# Altium footprint library Connector_PCBEdge.PcbLib: 101 footprints (part 1 of 7)
Each footprint in its own frame and in the unit in brackets; x right, y up, seen from the top. Pads: shape width x height; smd on the part's side, far side on the other; paste and mask are expansions set on the pad; w line width, h text height; cw(c..) or ccw(c..) is an arc to the next point about the centre after c.
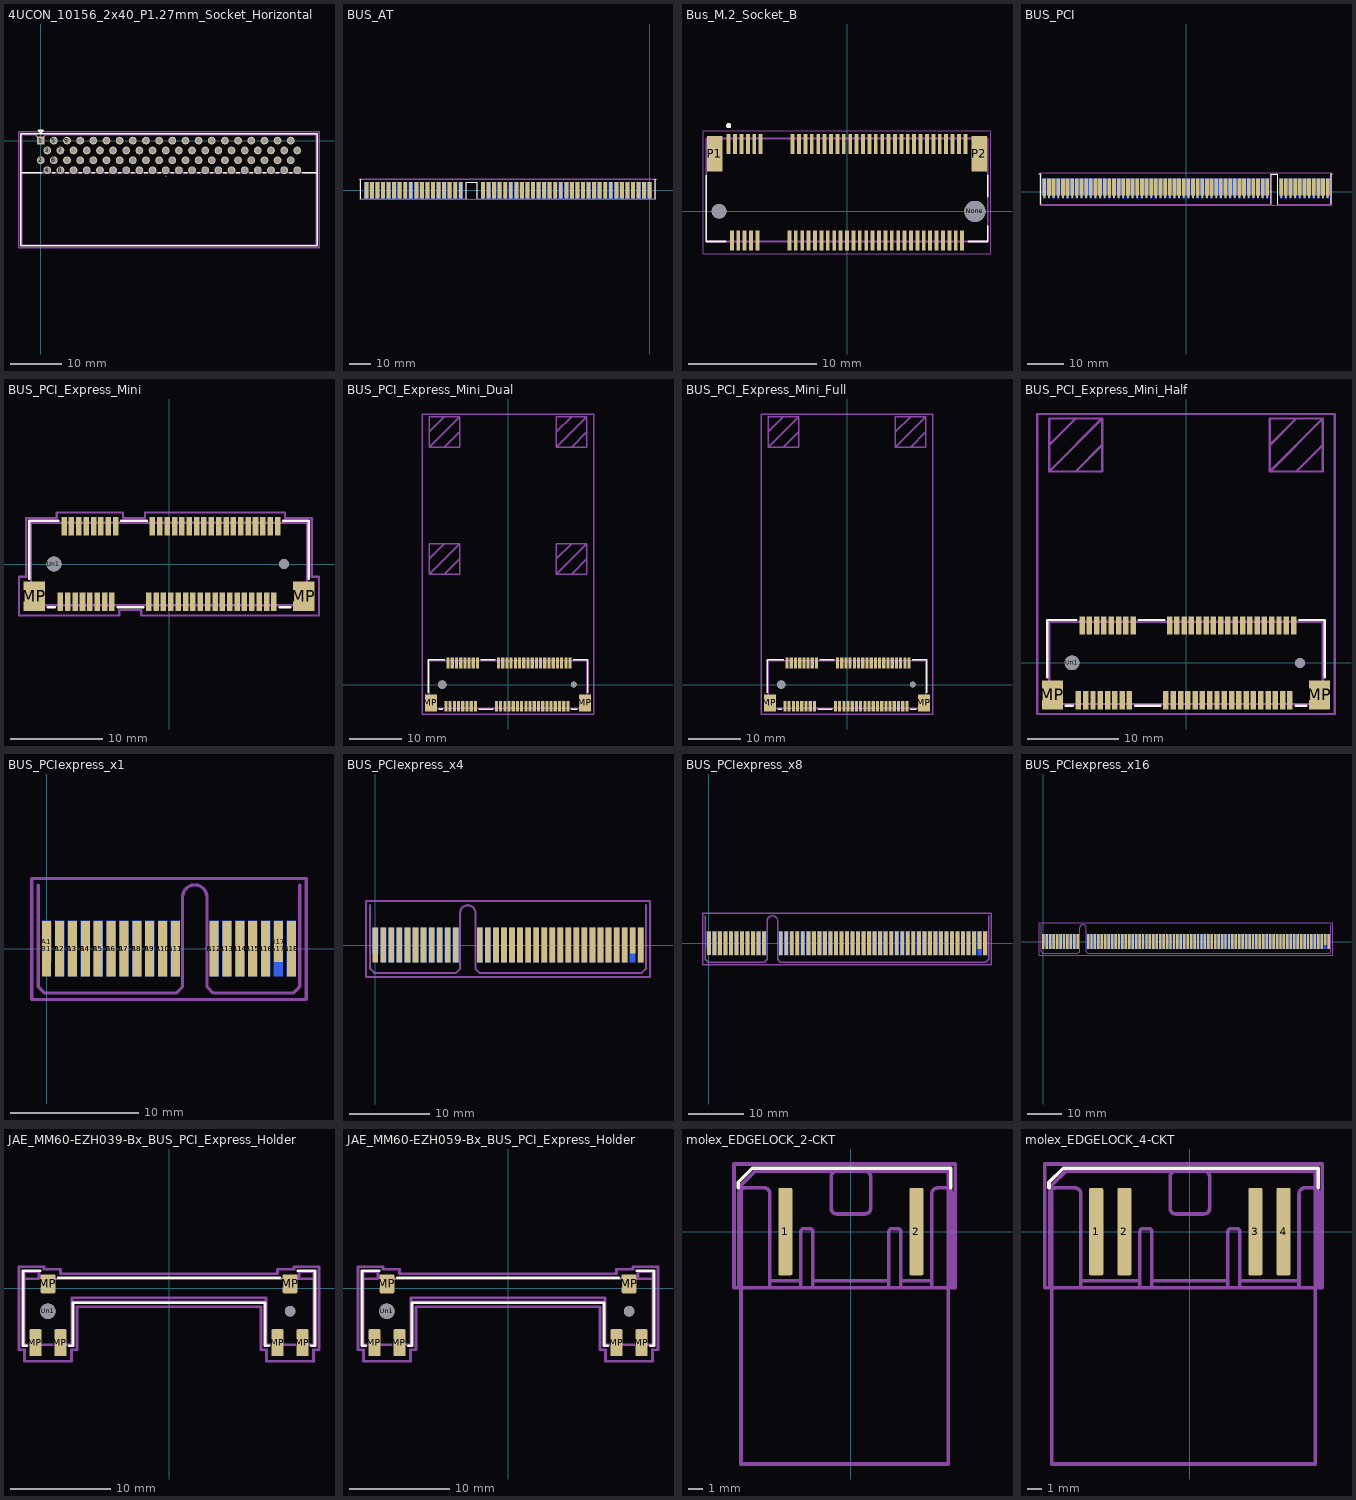
[diagram p0: the footprints below, top view; thin cyan lines are the x and y axes]

## 4UCON_10156_2x40_P1.27mm_Socket_Horizontal [mm]
pads (80):
  rect 1.5x1.5 hole 1: 1(0,0)
  round 1.5 hole 1: 2(0,-3.8) 3(1.27,-1.9) 4(1.27,-5.7) 5(2.54,0) 6(2.54,-3.8) 7(3.81,-1.9) 8(3.81,-5.7) 9(5.08,0) 10(5.08,-3.8) 11(6.35,-1.9) 12(6.35,-5.7) 13(7.62,0) 14(7.62,-3.8) 15(8.89,-1.9) 16(8.89,-5.7) 17(10.16,0) 18(10.16,-3.8) 19(11.43,-1.9) 20(11.43,-5.7) 21(12.7,0) 22(12.7,-3.8) 23(13.97,-1.9) 24(13.97,-5.7) 25(15.24,0) 26(15.24,-3.8) 27(16.51,-1.9) 28(16.51,-5.7) 29(17.78,0) 30(17.78,-3.8) 31(19.05,-1.9) 32(19.05,-5.7) 33(20.32,0) 34(20.32,-3.8) 35(21.59,-1.9) 36(21.59,-5.7) 37(22.86,0) 38(22.86,-3.8) 39(24.13,-1.9) 40(24.13,-5.7) 41(25.4,0) 42(25.4,-3.8) 43(26.67,-1.9) 44(26.67,-5.7) 45(27.94,0) 46(27.94,-3.8) 47(29.21,-1.9) 48(29.21,-5.7) 49(30.48,0) 50(30.48,-3.8) 51(31.75,-1.9) 52(31.75,-5.7) 53(33.02,0) 54(33.02,-3.8) 55(34.29,-1.9) 56(34.29,-5.7) 57(35.56,0) 58(35.56,-3.8) 59(36.83,-1.9) 60(36.83,-5.7) 61(38.1,0) 62(38.1,-3.8) 63(39.37,-1.9) 64(39.37,-5.7) 65(40.64,0) 66(40.64,-3.8) 67(41.91,-1.9) 68(41.91,-5.7) 69(43.18,0) 70(43.18,-3.8) 71(44.45,-1.9) 72(44.45,-5.7) 73(45.72,0) 74(45.72,-3.8) 75(46.99,-1.9) 76(46.99,-5.7) 77(48.26,0) 78(48.26,-3.8) 79(49.53,-1.9) 80(49.53,-5.7)
F.SilkS:
  lines w0.254: -3.8,-6.2 0.311,-6.2 ; 2.23,-6.2 2.851,-6.2 ; 4.77,-6.2 5.391,-6.2 ; 7.31,-6.2 7.931,-6.2 ; 9.85,-6.2 10.471,-6.2 ; 12.39,-6.2 13.011,-6.2 ; 14.93,-6.2 15.551,-6.2 ; 17.47,-6.2 18.091,-6.2 ; 20.01,-6.2 20.631,-6.2 ; 22.55,-6.2 23.171,-6.2 ; 25.09,-6.2 25.711,-6.2 ; 27.63,-6.2 28.251,-6.2 ; 30.17,-6.2 30.791,-6.2 ; 32.71,-6.2 33.331,-6.2 ; 35.25,-6.2 35.871,-6.2 ; 37.79,-6.2 38.411,-6.2 ; 40.33,-6.2 40.951,-6.2 ; 42.87,-6.2 43.491,-6.2 ; 45.41,-6.2 46.031,-6.2 ; 47.95,-6.2 48.571,-6.2 ; 50.49,-6.2 53.33,-6.2 ; -3.8,-20.32 53.33,-20.32 53.33,1.29 -3.8,1.29 -3.8,-20.32 ; -0.5,2.03 0,1.53 0.5,2.03 -0.5,2.03
Top Component Center:
  lines w0.127: 24.003,-6.858 24.257,-6.858 ; 24.13,-6.985 24.13,-6.731
Top Assembly:
  lines w0.254: -3.68,-6.2 53.21,-6.2 ; -3.68,-20.2 53.21,-20.2 53.21,1.17 1,1.17 0,0.17 -1,1.17 -3.68,1.17 -3.68,-20.2
  text "'.Designator'" at 20.718,-10.355 h1
Top Courtyard:
  lines w0.254: -4.18,-20.7 53.71,-20.7 53.71,1.67 -4.18,1.67 -4.18,-20.7
Top Designator:
  text ".Designator" at 17.147,-9.843 h1.52

## BUS_AT [mm]
pads (98):
  rect 1.78x7.62 smd far side: 1(0,0) 2(-2.54,0) 3(-5.08,0) 4(-7.62,0) 5(-10.16,0) 6(-12.7,0) 7(-15.24,0) 8(-17.78,0) 9(-20.32,0) 10(-22.86,0) 11(-25.4,0) 12(-27.94,0) 13(-30.48,0) 14(-33.02,0) 15(-35.56,0) 16(-38.1,0) 17(-40.64,0) 18(-43.18,0) 19(-45.72,0) 20(-48.26,0) 21(-50.8,0) 22(-53.34,0) 23(-55.88,0) 24(-58.42,0) 25(-60.96,0) 26(-63.5,0) 27(-66.04,0) 28(-68.58,0) 29(-71.12,0) 30(-73.66,0) 31(-76.2,0) 63(-86.36,0) 64(-88.9,0) 65(-91.44,0) 66(-93.98,0) 67(-96.52,0) 68(-99.06,0) 69(-101.6,0) 70(-104.14,0) 71(-106.68,0) 72(-109.22,0) 73(-111.76,0) 74(-114.3,0) 75(-116.84,0) 76(-119.38,0) 77(-121.92,0) 78(-124.46,0) 79(-127,0) 80(-129.54,0)
  rect 1.78x7.62 smd: 32(0,0) 33(-2.54,0) 34(-5.08,0) 35(-7.62,0) 36(-10.16,0) 37(-12.7,0) 38(-15.24,0) 39(-17.78,0) 40(-20.32,0) 41(-22.86,0) 42(-25.4,0) 43(-27.94,0) 44(-30.48,0) 45(-33.02,0) 46(-35.56,0) 47(-38.1,0) 48(-40.64,0) 49(-43.18,0) 50(-45.72,0) 51(-48.26,0) 52(-50.8,0) 53(-53.34,0) 54(-55.88,0) 55(-58.42,0) 56(-60.96,0) 57(-63.5,0) 58(-66.04,0) 59(-68.58,0) 60(-71.12,0) 61(-73.66,0) 62(-76.2,0) 81(-86.36,0) 82(-88.9,0) 83(-91.44,0) 84(-93.98,0) 85(-96.52,0) 86(-99.06,0) 87(-101.6,0) 88(-104.14,0) 89(-106.68,0) 90(-109.22,0) 91(-111.76,0) 92(-114.3,0) 93(-116.84,0) 94(-119.38,0) 95(-121.92,0) 96(-124.46,0) 97(-127,0) 98(-129.54,0)
F.SilkS:
  lines w0.254: -132.55,5.1 -132.15,5.1 -132.15,-3.85 ; -83.75,-3.85 -83.75,3.75 -78.8,3.75 -78.8,-3.85 ; 2.6,-3.85 2.6,5.1 3,5.1
Top Assembly:
  lines w0.254: -132.08,-3.81 -132.08,5.08 2.54,5.08 2.54,-3.81 -78.74,-3.81 -78.74,3.81 -83.82,3.81 -83.82,-3.81 -132.08,-3.81
  text "'.Designator'" at -68.817,-0.205 h1
Top Courtyard:
  lines w0.254: -132.33,-4.06 -132.33,5.33 2.79,5.33 2.79,-4.06 -132.33,-4.06
Top Designator:
  text ".Designator" at -72.393,0.127 h1.52

## Bus_M.2_Socket_B [mm] "Bus_M.2_Socket_B"
pads (71):
  rect 0.3x1.55 smd: 1(-9.25,5.275) 2(-9,-2.275) 3(-8.75,5.275) 4(-8.5,-2.275) 5(-8.25,5.275) 6(-8,-2.275) 7(-7.75,5.275) 8(-7.5,-2.275) 9(-7.25,5.275) 10(-7,-2.275) 11(-6.75,5.275) 20(-4.5,-2.275) 21(-4.25,5.275) 22(-4,-2.275) 23(-3.75,5.275) 24(-3.5,-2.275) 25(-3.25,5.275) 26(-3,-2.275) 27(-2.75,5.275) 28(-2.5,-2.275) 29(-2.25,5.275) 30(-2,-2.275) 31(-1.75,5.275) 32(-1.5,-2.275) 33(-1.25,5.275) 34(-1,-2.275) 35(-0.75,5.275) 36(-0.5,-2.275) 37(-0.25,5.275) 38(0,-2.275) 39(0.25,5.275) 40(0.5,-2.275) 41(0.75,5.275) 42(1,-2.275) 43(1.25,5.275) 44(1.5,-2.275) 45(1.75,5.275) 46(2,-2.275) 47(2.25,5.275) 48(2.5,-2.275) 49(2.75,5.275) 50(3,-2.275) 51(3.25,5.275) 52(3.5,-2.275) 53(3.75,5.275) 54(4,-2.275) 55(4.25,5.275) 56(4.5,-2.275) 57(4.75,5.275) 58(5,-2.275) 59(5.25,5.275) 60(5.5,-2.275) 61(5.75,5.275) 62(6,-2.275) 63(6.25,5.275) 64(6.5,-2.275) 65(6.75,5.275) 66(7,-2.275) 67(7.25,5.275) 68(7.5,-2.275) 69(7.75,5.275) 70(8,-2.275) 71(8.25,5.275) 72(8.5,-2.275) 73(8.75,5.275) 74(9,-2.275) 75(9.25,5.275)
  round 1.15 hole 1.15: None(-10,0)
  round 1.65 hole 1.65: None(10,0)
  rect 1.2x2.75 smd: P1(-10.35,4.5) P2(10.35,4.5)
F.SilkS:
  circle w0.2: c-9.25,6.7 r0.1
  lines w0.127: -11,2.805 -11,-2.35 -9.47,-2.35 ; 9.47,-2.35 11,-2.35 11,-1.145 ; 11,1.145 11,2.805
Top Assembly:
  circle w0.2: c-9.25,6.7 r0.1
  lines w0.127: -11,-2.35 11,-2.35 11,5.7 -11,5.7 -11,-2.35
Top Courtyard:
  lines w0.05: -11.25,-3.3 11.25,-3.3 11.25,6.3 -11.25,6.3 -11.25,-3.3
3D body "Bus_M.2_Socket_B.step": height 2.7, standoff -0.6, extent -11,-2.822 11,5.728

## BUS_PCI [mm]
pads (240):
  rect 0.51x0.76 smd far side: A1(-38.73,-1.33) A2(-37.46,-1.33) A3(-36.2,-1.33) A4(-34.92,-1.33) A5(-33.65,-1.33) A6(-32.38,-1.33) A7(-31.11,-1.33) A8(-29.84,-1.33) A9(-28.57,-1.33) A10(-27.3,-1.33) A11(-26.03,-1.33) A12(-24.77,-1.33) A13(-23.49,-1.33) A14(-22.22,-1.33) A15(-20.95,-1.33) A16(-19.68,-1.33) A17(-18.41,-1.33) A18(-17.14,-1.33) A19(-15.88,-1.33) A20(-14.6,-1.33) A21(-13.34,-1.33) A22(-12.06,-1.33) A23(-10.79,-1.33) A24(-9.52,-1.33) A25(-8.25,-1.33) A26(-6.98,-1.33) A27(-5.71,-1.33) A28(-4.44,-1.33) A29(-3.17,-1.33) A30(-1.9,-1.33) A31(-0.63,-1.33) A32(0.64,-1.33) A33(1.91,-1.33) A34(3.18,-1.33) A35(4.45,-1.33) A36(5.72,-1.33) A37(6.99,-1.33) A38(8.26,-1.33) A39(9.53,-1.33) A40(10.8,-1.33) A41(12.07,-1.33) A42(13.34,-1.33) A43(14.61,-1.33) A44(15.88,-1.33) A45(17.15,-1.33) A46(18.42,-1.33) A47(19.69,-1.33) A48(20.96,-1.33) A49(22.23,-1.33) A52(26.04,-1.33) A53(27.31,-1.33) A54(28.58,-1.33) A55(29.85,-1.33) A56(31.12,-1.33) A57(32.39,-1.33) A58(33.66,-1.33) A59(34.93,-1.33) A60(36.2,-1.33) A61(37.47,-1.33) A62(38.73,-1.33)
  rect 1.02x4.57 smd far side: A1(-38.73,1.33) A2(-37.46,1.33) A3(-36.2,1.33) A4(-34.92,1.33) A5(-33.65,1.33) A6(-32.38,1.33) A7(-31.11,1.33) A8(-29.84,1.33) A9(-28.57,1.33) A10(-27.3,1.33) A11(-26.03,1.33) A12(-24.77,1.33) A13(-23.49,1.33) A14(-22.22,1.33) A15(-20.95,1.33) A16(-19.68,1.33) A17(-18.41,1.33) A18(-17.14,1.33) A19(-15.88,1.33) A20(-14.6,1.33) A21(-13.34,1.33) A22(-12.06,1.33) A23(-10.79,1.33) A24(-9.52,1.33) A25(-8.25,1.33) A26(-6.98,1.33) A27(-5.71,1.33) A28(-4.44,1.33) A29(-3.17,1.33) A30(-1.9,1.33) A31(-0.63,1.33) A32(0.64,1.33) A33(1.91,1.33) A34(3.18,1.33) A35(4.45,1.33) A36(5.72,1.33) A37(6.99,1.33) A38(8.26,1.33) A39(9.53,1.33) A40(10.8,1.33) A41(12.07,1.33) A42(13.34,1.33) A43(14.61,1.33) A44(15.88,1.33) A45(17.15,1.33) A46(18.42,1.33) A47(19.69,1.33) A48(20.96,1.33) A49(22.23,1.33) A52(26.04,1.33) A53(27.31,1.33) A54(28.58,1.33) A55(29.85,1.33) A56(31.12,1.33) A57(32.39,1.33) A58(33.66,1.33) A59(34.93,1.33) A60(36.2,1.33) A61(37.47,1.33) A62(38.73,1.33)
  rect 0.51x0.76 smd: B1(-38.73,-1.33) B2(-37.46,-1.33) B3(-36.2,-1.33) B4(-34.92,-1.33) B5(-33.65,-1.33) B6(-32.38,-1.33) B7(-31.11,-1.33) B8(-29.84,-1.33) B9(-28.57,-1.33) B10(-27.3,-1.33) B11(-26.03,-1.33) B12(-24.77,-1.33) B13(-23.49,-1.33) B14(-22.22,-1.33) B15(-20.95,-1.33) B16(-19.68,-1.33) B17(-18.41,-1.33) B18(-17.14,-1.33) B19(-15.88,-1.33) B20(-14.6,-1.33) B21(-13.34,-1.33) B22(-12.06,-1.33) B23(-10.79,-1.33) B24(-9.52,-1.33) B25(-8.25,-1.33) B26(-6.98,-1.33) B27(-5.71,-1.33) B28(-4.44,-1.33) B29(-3.17,-1.33) B30(-1.9,-1.33) B31(-0.63,-1.33) B32(0.64,-1.33) B33(1.91,-1.33) B34(3.18,-1.33) B35(4.45,-1.33) B36(5.72,-1.33) B37(6.99,-1.33) B38(8.26,-1.33) B39(9.53,-1.33) B40(10.8,-1.33) B41(12.07,-1.33) B42(13.34,-1.33) B43(14.61,-1.33) B44(15.88,-1.33) B45(17.15,-1.33) B46(18.42,-1.33) B47(19.69,-1.33) B48(20.96,-1.33) B49(22.23,-1.33) B52(26.04,-1.33) B53(27.31,-1.33) B54(28.58,-1.33) B55(29.85,-1.33) B56(31.12,-1.33) B57(32.39,-1.33) B58(33.66,-1.33) B59(34.93,-1.33) B60(36.2,-1.33) B61(37.47,-1.33) B62(38.73,-1.33)
  rect 1.02x4.57 smd: B1(-38.73,1.33) B2(-37.46,1.33) B3(-36.2,1.33) B4(-34.92,1.33) B5(-33.65,1.33) B6(-32.38,1.33) B7(-31.11,1.33) B8(-29.84,1.33) B9(-28.57,1.33) B10(-27.3,1.33) B11(-26.03,1.33) B12(-24.77,1.33) B13(-23.49,1.33) B14(-22.22,1.33) B15(-20.95,1.33) B16(-19.68,1.33) B17(-18.41,1.33) B18(-17.14,1.33) B19(-15.88,1.33) B20(-14.6,1.33) B21(-13.34,1.33) B22(-12.06,1.33) B23(-10.79,1.33) B24(-9.52,1.33) B25(-8.25,1.33) B26(-6.98,1.33) B27(-5.71,1.33) B28(-4.44,1.33) B29(-3.17,1.33) B30(-1.9,1.33) B31(-0.63,1.33) B32(0.64,1.33) B33(1.91,1.33) B34(3.18,1.33) B35(4.45,1.33) B36(5.72,1.33) B37(6.99,1.33) B38(8.26,1.33) B39(9.53,1.33) B40(10.8,1.33) B41(12.07,1.33) B42(13.34,1.33) B43(14.61,1.33) B44(15.88,1.33) B45(17.15,1.33) B46(18.42,1.33) B47(19.69,1.33) B48(20.96,1.33) B49(22.23,1.33) B52(26.04,1.33) B53(27.31,1.33) B54(28.58,1.33) B55(29.85,1.33) B56(31.12,1.33) B57(32.39,1.33) B58(33.66,1.33) B59(34.93,1.33) B60(36.2,1.33) B61(37.47,1.33) B62(38.73,1.33)
F.SilkS:
  lines w0.254: -40.27,4.88 -39.67,4.88 -39.72,-3.37 ; 23.28,-3.37 23.28,4.83 24.93,4.83 24.98,-3.37 ; 39.68,-3.37 39.68,4.88 39.98,4.88
Top Assembly:
  lines w0.254: -39.62,4.89 -39.62,-3.37 23.24,-3.37 23.24,4.89 25.02,4.89 25.02,-3.37 39.62,-3.37 39.62,4.89
  text "'.Designator'" at -4.047,-0.08 h1
Top Courtyard:
  lines w0.254: -39.87,-3.62 39.87,-3.62 39.87,5.14 -39.87,5.14 -39.87,-3.62
Top Designator:
  text ".Designator" at -7.763,0.252 h1.52

## BUS_PCI_Express_Mini [mm]
pads (56):
  rect 0.6x2 smd: 1(-11.8,-4.1) 2(-11.4,4.1) 3(-11,-4.1) 4(-10.6,4.1) 5(-10.2,-4.1) 6(-9.8,4.1) 7(-9.4,-4.1) 8(-9,4.1) 9(-8.6,-4.1) 10(-8.2,4.1) 11(-7.8,-4.1) 12(-7.4,4.1) 13(-7,-4.1) 14(-6.6,4.1) 15(-6.2,-4.1) 16(-5.8,4.1) 17(-2.2,-4.1) 18(-1.8,4.1) 19(-1.4,-4.1) 20(-1,4.1) 21(-0.6,-4.1) 22(-0.2,4.1) 23(0.2,-4.1) 24(0.6,4.1) 25(1,-4.1) 26(1.4,4.1) 27(1.8,-4.1) 28(2.2,4.1) 29(2.6,-4.1) 30(3,4.1) 31(3.4,-4.1) 32(3.8,4.1) 33(4.2,-4.1) 34(4.6,4.1) 35(5,-4.1) 36(5.4,4.1) 37(5.8,-4.1) 38(6.2,4.1) 39(6.6,-4.1) 40(7,4.1) 41(7.4,-4.1) 42(7.8,4.1) 43(8.2,-4.1) 44(8.6,4.1) 45(9,-4.1) 46(9.4,4.1) 47(9.8,-4.1) 48(10.2,4.1) 49(10.6,-4.1) 50(11,4.1) 51(11.4,-4.1) 52(11.8,4.1)
  rect 2.3x3.2 smd: MP(-14.65,-3.5) MP(14.65,-3.5)
  round 1.6 hole 1.6: Un1(-12.5,0)
  round 1.1 hole 1.1: Un2(12.5,0)
F.SilkS:
  lines w0.254: -15.2,-1.6 -15.2,4.7 -12,4.7 ; -13.2,-4.7 -12.4,-4.7 ; -5.6,-4.7 -2.8,-4.7 ; -5.2,4.7 -2.4,4.7 ; 12,-4.7 13.2,-4.7 ; 12.4,4.7 15.2,4.7 15.2,-1.6
Top Assembly:
  lines w0.254: -15,-4.5 -15,4.5 15,4.5 15,-4.5 -15,-4.5
  text "'.Designator'" at -4.047,-0.84 h1
Top Courtyard:
  lines w0.254: -16.3,-5.6 -16.3,-1.4 -15.5,-1.4 -15.5,5 -12.2,5 -12.2,5.6 -5,5.6 -5,5 -2.6,5 -2.6,5.6 12.6,5.6 12.6,5 15.5,5 15.5,-1.4 16.3,-1.4 16.3,-5.6 -3,-5.6 -3,-5 -5.4,-5 -5.4,-5.6 -16.3,-5.6
Top Designator:
  text ".Designator" at -7.618,-0.508 h1.52

## BUS_PCI_Express_Mini_Dual [mm]
pads (56):
  rect 0.6x2 smd: 1(-11.8,-4.1) 2(-11.4,4.1) 3(-11,-4.1) 4(-10.6,4.1) 5(-10.2,-4.1) 6(-9.8,4.1) 7(-9.4,-4.1) 8(-9,4.1) 9(-8.6,-4.1) 10(-8.2,4.1) 11(-7.8,-4.1) 12(-7.4,4.1) 13(-7,-4.1) 14(-6.6,4.1) 15(-6.2,-4.1) 16(-5.8,4.1) 17(-2.2,-4.1) 18(-1.8,4.1) 19(-1.4,-4.1) 20(-1,4.1) 21(-0.6,-4.1) 22(-0.2,4.1) 23(0.2,-4.1) 24(0.6,4.1) 25(1,-4.1) 26(1.4,4.1) 27(1.8,-4.1) 28(2.2,4.1) 29(2.6,-4.1) 30(3,4.1) 31(3.4,-4.1) 32(3.8,4.1) 33(4.2,-4.1) 34(4.6,4.1) 35(5,-4.1) 36(5.4,4.1) 37(5.8,-4.1) 38(6.2,4.1) 39(6.6,-4.1) 40(7,4.1) 41(7.4,-4.1) 42(7.8,4.1) 43(8.2,-4.1) 44(8.6,4.1) 45(9,-4.1) 46(9.4,4.1) 47(9.8,-4.1) 48(10.2,4.1) 49(10.6,-4.1) 50(11,4.1) 51(11.4,-4.1) 52(11.8,4.1)
  rect 2.3x3.2 smd: MP(-14.65,-3.5) MP(14.65,-3.5)
  round 1.6 hole 1.6: Un1(-12.5,0)
  round 1.1 hole 1.1: Un2(12.5,0)
F.SilkS:
  lines w0.254: -15.2,-1.6 -15.2,4.7 -12,4.7 ; -13.2,-4.7 -12.4,-4.7 ; -5.6,-4.7 -2.8,-4.7 ; -5.2,4.7 -2.4,4.7 ; 12,-4.7 13.2,-4.7 ; 12.4,4.7 15.2,4.7 15.2,-1.6
Top Assembly:
  lines w0.254: -15,-4.5 15,-4.5 15,4.5 -15,4.5 -15,-4.5
  text "'.Designator'" at -4.047,-0.84 h1
Top Courtyard:
  lines w0.254: -16.3,-5.6 16.3,-5.6 16.3,51.45 -16.3,51.45 -16.3,-5.6
Top Designator:
  text ".Designator" at -7.618,22.417 h1.52
Dwgs.User:
  lines w0.254: -15,23.9 -12.1,26.8 ; -15,48.05 -12.1,50.95 ; -12.1,21 -9.2,23.9 ; -12.1,45.15 -9.2,48.05 ; 9.2,23.9 12.1,26.8 ; 9.2,48.05 12.1,50.95 ; 12.1,21 15,23.9 ; 12.1,45.15 15,48.05 ; -15,21 -9.2,26.8 ; -15,21 -9.2,21 -9.2,26.8 ; -15,21 -15,26.8 -9.2,26.8 ; -15,45.15 -9.2,50.95 ; -15,45.15 -9.2,45.15 -9.2,50.95 ; -15,45.15 -15,50.95 -9.2,50.95 ; 9.2,21 15,21 15,26.8 ; 9.2,21 15,26.8 ; 9.2,21 9.2,26.8 15,26.8 ; 9.2,45.15 15,50.95 ; 9.2,45.15 15,45.15 15,50.95 ; 9.2,45.15 9.2,50.95 15,50.95

## BUS_PCI_Express_Mini_Full [mm]
pads (56):
  rect 0.6x2 smd: 1(-11.8,-4.1) 2(-11.4,4.1) 3(-11,-4.1) 4(-10.6,4.1) 5(-10.2,-4.1) 6(-9.8,4.1) 7(-9.4,-4.1) 8(-9,4.1) 9(-8.6,-4.1) 10(-8.2,4.1) 11(-7.8,-4.1) 12(-7.4,4.1) 13(-7,-4.1) 14(-6.6,4.1) 15(-6.2,-4.1) 16(-5.8,4.1) 17(-2.2,-4.1) 18(-1.8,4.1) 19(-1.4,-4.1) 20(-1,4.1) 21(-0.6,-4.1) 22(-0.2,4.1) 23(0.2,-4.1) 24(0.6,4.1) 25(1,-4.1) 26(1.4,4.1) 27(1.8,-4.1) 28(2.2,4.1) 29(2.6,-4.1) 30(3,4.1) 31(3.4,-4.1) 32(3.8,4.1) 33(4.2,-4.1) 34(4.6,4.1) 35(5,-4.1) 36(5.4,4.1) 37(5.8,-4.1) 38(6.2,4.1) 39(6.6,-4.1) 40(7,4.1) 41(7.4,-4.1) 42(7.8,4.1) 43(8.2,-4.1) 44(8.6,4.1) 45(9,-4.1) 46(9.4,4.1) 47(9.8,-4.1) 48(10.2,4.1) 49(10.6,-4.1) 50(11,4.1) 51(11.4,-4.1) 52(11.8,4.1)
  rect 2.3x3.2 smd: MP(-14.65,-3.5) MP(14.65,-3.5)
  round 1.6 hole 1.6: Un1(-12.5,0)
  round 1.1 hole 1.1: Un2(12.5,0)
F.SilkS:
  lines w0.254: -15.2,-1.6 -15.2,4.7 -12,4.7 ; -13.2,-4.7 -12.4,-4.7 ; -5.6,-4.7 -2.8,-4.7 ; -5.2,4.7 -2.4,4.7 ; 12,-4.7 13.2,-4.7 ; 12.4,4.7 15.2,4.7 15.2,-1.6
Top Assembly:
  lines w0.254: -15,-4.5 15,-4.5 15,4.5 -15,4.5 -15,-4.5
  text "'.Designator'" at -4.047,-0.84 h1
Top Courtyard:
  lines w0.254: -16.3,-5.6 16.3,-5.6 16.3,51.45 -16.3,51.45 -16.3,-5.6
Top Designator:
  text ".Designator" at -7.618,22.417 h1.52
Dwgs.User:
  lines w0.254: -15,48.05 -12.1,50.95 ; -12.1,45.15 -9.2,48.05 ; 9.2,48.05 12.1,50.95 ; 12.1,45.15 15,48.05 ; -15,45.15 -9.2,50.95 ; -15,45.15 -9.2,45.15 -9.2,50.95 ; -15,45.15 -15,50.95 -9.2,50.95 ; 9.2,45.15 15,50.95 ; 9.2,45.15 15,45.15 15,50.95 ; 9.2,45.15 9.2,50.95 15,50.95

## BUS_PCI_Express_Mini_Half [mm]
pads (56):
  rect 0.6x2 smd: 1(-11.8,-4.1) 2(-11.4,4.1) 3(-11,-4.1) 4(-10.6,4.1) 5(-10.2,-4.1) 6(-9.8,4.1) 7(-9.4,-4.1) 8(-9,4.1) 9(-8.6,-4.1) 10(-8.2,4.1) 11(-7.8,-4.1) 12(-7.4,4.1) 13(-7,-4.1) 14(-6.6,4.1) 15(-6.2,-4.1) 16(-5.8,4.1) 17(-2.2,-4.1) 18(-1.8,4.1) 19(-1.4,-4.1) 20(-1,4.1) 21(-0.6,-4.1) 22(-0.2,4.1) 23(0.2,-4.1) 24(0.6,4.1) 25(1,-4.1) 26(1.4,4.1) 27(1.8,-4.1) 28(2.2,4.1) 29(2.6,-4.1) 30(3,4.1) 31(3.4,-4.1) 32(3.8,4.1) 33(4.2,-4.1) 34(4.6,4.1) 35(5,-4.1) 36(5.4,4.1) 37(5.8,-4.1) 38(6.2,4.1) 39(6.6,-4.1) 40(7,4.1) 41(7.4,-4.1) 42(7.8,4.1) 43(8.2,-4.1) 44(8.6,4.1) 45(9,-4.1) 46(9.4,4.1) 47(9.8,-4.1) 48(10.2,4.1) 49(10.6,-4.1) 50(11,4.1) 51(11.4,-4.1) 52(11.8,4.1)
  rect 2.3x3.2 smd: MP(-14.65,-3.5) MP(14.65,-3.5)
  round 1.6 hole 1.6: Un1(-12.5,0)
  round 1.1 hole 1.1: Un2(12.5,0)
F.SilkS:
  lines w0.254: -15.2,-1.6 -15.2,4.7 -12,4.7 ; -13.2,-4.7 -12.4,-4.7 ; -5.6,-4.7 -2.8,-4.7 ; -5.2,4.7 -2.4,4.7 ; 12,-4.7 13.2,-4.7 ; 12.4,4.7 15.2,4.7 15.2,-1.6
Top Assembly:
  lines w0.254: -15,-4.5 15,-4.5 15,4.5 -15,4.5 -15,-4.5
  text "'.Designator'" at -4.047,-0.84 h1
Top Courtyard:
  lines w0.254: -16.3,-5.6 16.3,-5.6 16.3,27.3 -16.3,27.3 -16.3,-5.6
Top Designator:
  text ".Designator" at -7.618,10.342 h1.52
Dwgs.User:
  lines w0.254: -15,23.9 -12.1,26.8 ; -12.1,21 -9.2,23.9 ; 9.2,23.9 12.1,26.8 ; 12.1,21 15,23.9 ; -15,21 -9.2,21 -9.2,26.8 ; -15,21 -9.2,26.8 ; -15,21 -15,26.8 -9.2,26.8 ; 9.2,21 15,21 15,26.8 ; 9.2,21 15,26.8 ; 9.2,21 9.2,26.8 15,26.8

## BUS_PCIexpress_x1 [mm]
pads (36):
  rect 0.7x3.2 smd far side: A1(0,0.55)
  rect 0.7x4.3 smd far side: A2(1,0) A3(2,0) A4(3,0) A5(4,0) A6(5,0) A7(6,0) A8(7,0) A9(8,0) A10(9,0) A11(10,0) A12(13,0) A13(14,0) A14(15,0) A15(16,0) A16(17,0) A17(18,0) A18(19,0)
  rect 0.7x4.3 smd: B1(0,0) B2(1,0) B3(2,0) B4(3,0) B5(4,0) B6(5,0) B7(6,0) B8(7,0) B9(8,0) B10(9,0) B11(10,0) B12(13,0) B13(14,0) B14(15,0) B15(16,0) B16(17,0) B18(19,0)
  rect 0.7x3.2 smd: B17(18,0.55)
Top Assembly:
  text "'.Designator'" at 11.953,2.66 h1
Top Courtyard:
  lines w0.254: -1.15,-3.95 20.15,-3.95 20.15,5.45 -1.15,5.45 -1.15,-3.95
Top Designator:
  text ".Designator" at 1.882,0.242 h1.52
Board Shape:
  lines w0.254: -0.65,4.95 -0.65,-2.95 -0.15,-3.45 10.05,-3.45 10.55,-2.95 10.55,4 cw(c11.5,4) 12.45,4 12.45,-2.95 12.95,-3.45 19.15,-3.45 19.65,-2.95 19.65,4.95
Cmts.User:
  text "PCB Thickness 1.57 mm" at 0.697,-3.162 h0.5

## BUS_PCIexpress_x4 [mm]
pads (64):
  rect 0.7x3.2 smd far side: A1(0,0.55)
  rect 0.7x4.3 smd far side: A2(1,0) A3(2,0) A4(3,0) A5(4,0) A6(5,0) A7(6,0) A8(7,0) A9(8,0) A10(9,0) A11(10,0) A12(13,0) A13(14,0) A14(15,0) A15(16,0) A16(17,0) A17(18,0) A18(19,0) A19(20,0) A20(21,0) A21(22,0) A22(23,0) A23(24,0) A24(25,0) A25(26,0) A26(27,0) A27(28,0) A28(29,0) A29(30,0) A30(31,0) A31(32,0) A32(33,0)
  rect 0.7x4.3 smd: B1(0,0) B2(1,0) B3(2,0) B4(3,0) B5(4,0) B6(5,0) B7(6,0) B8(7,0) B9(8,0) B10(9,0) B11(10,0) B12(13,0) B13(14,0) B14(15,0) B15(16,0) B16(17,0) B17(18,0) B18(19,0) B19(20,0) B20(21,0) B21(22,0) B22(23,0) B23(24,0) B24(25,0) B25(26,0) B26(27,0) B27(28,0) B28(29,0) B29(30,0) B30(31,0) B32(33,0)
  rect 0.7x3.2 smd: B31(32,0.55)
Top Assembly:
  text "'.Designator'" at 11.953,2.66 h1
Top Courtyard:
  lines w0.254: -1.15,-3.95 -1.15,5.45 34.15,5.45 34.15,-3.95 -1.15,-3.95
Top Designator:
  text ".Designator" at 8.882,0.242 h1.52
Board Shape:
  lines w0.254: -0.65,4.95 -0.65,-2.95 -0.15,-3.45 10.05,-3.45 10.55,-2.95 10.55,4 cw(c11.5,4) 12.45,4 12.45,-2.95 12.95,-3.45 33.15,-3.45 33.65,-2.95 33.65,4.95
Cmts.User:
  text "PCB Thickness 1.57 mm" at 0.697,-3.162 h0.5

## BUS_PCIexpress_x8 [mm]
pads (98):
  rect 0.7x3.2 smd far side: A1(0,0.55)
  rect 0.7x4.3 smd far side: A2(1,0) A3(2,0) A4(3,0) A5(4,0) A6(5,0) A7(6,0) A8(7,0) A9(8,0) A10(9,0) A11(10,0) A12(13,0) A13(14,0) A14(15,0) A15(16,0) A16(17,0) A17(18,0) A18(19,0) A19(20,0) A20(21,0) A21(22,0) A22(23,0) A23(24,0) A24(25,0) A25(26,0) A26(27,0) A27(28,0) A28(29,0) A29(30,0) A30(31,0) A31(32,0) A32(33,0) A33(34,0) A34(35,0) A35(36,0) A36(37,0) A37(38,0) A38(39,0) A39(40,0) A40(41,0) A41(42,0) A42(43,0) A43(44,0) A44(45,0) A45(46,0) A46(47,0) A47(48,0) A48(49,0) A49(50,0)
  rect 0.7x4.3 smd: B1(0,0) B2(1,0) B3(2,0) B4(3,0) B5(4,0) B6(5,0) B7(6,0) B8(7,0) B9(8,0) B10(9,0) B11(10,0) B12(13,0) B13(14,0) B14(15,0) B15(16,0) B16(17,0) B17(18,0) B18(19,0) B19(20,0) B20(21,0) B21(22,0) B22(23,0) B23(24,0) B24(25,0) B25(26,0) B26(27,0) B27(28,0) B28(29,0) B29(30,0) B30(31,0) B31(32,0) B32(33,0) B33(34,0) B34(35,0) B35(36,0) B36(37,0) B37(38,0) B38(39,0) B39(40,0) B40(41,0) B41(42,0) B42(43,0) B43(44,0) B44(45,0) B45(46,0) B46(47,0) B47(48,0) B49(50,0)
  rect 0.7x3.2 smd: B48(49,0.55)
Top Assembly:
  text "'.Designator'" at 11.953,2.66 h1
Top Courtyard:
  lines w0.254: -1.15,-3.95 51.15,-3.95 51.15,5.45 -1.15,5.45 -1.15,-3.95
Top Designator:
  text ".Designator" at 17.382,0.242 h1.52
Board Shape:
  lines w0.254: -0.65,4.95 -0.65,-2.95 -0.15,-3.45 10.05,-3.45 10.55,-2.95 10.55,4 cw(c11.5,4) 12.45,4 12.45,-2.95 12.95,-3.45 50.15,-3.45 50.65,-2.95 50.65,4.95
Cmts.User:
  text "PCB Thickness 1.57 mm" at 0.697,-3.162 h0.5

## BUS_PCIexpress_x16 [mm]
pads (164):
  rect 0.7x3.2 smd far side: A1(0,0.55)
  rect 0.7x4.3 smd far side: A2(1,0) A3(2,0) A4(3,0) A5(4,0) A6(5,0) A7(6,0) A8(7,0) A9(8,0) A10(9,0) A11(10,0) A12(13,0) A13(14,0) A14(15,0) A15(16,0) A16(17,0) A17(18,0) A18(19,0) A19(20,0) A20(21,0) A21(22,0) A22(23,0) A23(24,0) A24(25,0) A25(26,0) A26(27,0) A27(28,0) A28(29,0) A29(30,0) A30(31,0) A31(32,0) A32(33,0) A33(34,0) A34(35,0) A35(36,0) A36(37,0) A37(38,0) A38(39,0) A39(40,0) A40(41,0) A41(42,0) A42(43,0) A43(44,0) A44(45,0) A45(46,0) A46(47,0) A47(48,0) A48(49,0) A49(50,0) A50(51,0) A51(52,0) A52(53,0) A53(54,0) A54(55,0) A55(56,0) A56(57,0) A57(58,0) A58(59,0) A59(60,0) A60(61,0) A61(62,0) A62(63,0) A63(64,0) A64(65,0) A65(66,0) A66(67,0) A67(68,0) A68(69,0) A69(70,0) A70(71,0) A71(72,0) A72(73,0) A73(74,0) A74(75,0) A75(76,0) A76(77,0) A77(78,0) A78(79,0) A79(80,0) A80(81,0) A81(82,0) A82(83,0)
  rect 0.7x4.3 smd: B1(0,0) B2(1,0) B3(2,0) B4(3,0) B5(4,0) B6(5,0) B7(6,0) B8(7,0) B9(8,0) B10(9,0) B11(10,0) B12(13,0) B13(14,0) B14(15,0) B15(16,0) B16(17,0) B17(18,0) B18(19,0) B19(20,0) B20(21,0) B21(22,0) B22(23,0) B23(24,0) B24(25,0) B25(26,0) B26(27,0) B27(28,0) B28(29,0) B29(30,0) B30(31,0) B31(32,0) B32(33,0) B33(34,0) B34(35,0) B35(36,0) B36(37,0) B37(38,0) B38(39,0) B39(40,0) B40(41,0) B41(42,0) B42(43,0) B43(44,0) B44(45,0) B45(46,0) B46(47,0) B47(48,0) B48(49,0) B49(50,0) B50(51,0) B51(52,0) B52(53,0) B53(54,0) B54(55,0) B55(56,0) B56(57,0) B57(58,0) B58(59,0) B59(60,0) B60(61,0) B61(62,0) B62(63,0) B63(64,0) B64(65,0) B65(66,0) B66(67,0) B67(68,0) B68(69,0) B69(70,0) B70(71,0) B71(72,0) B72(73,0) B73(74,0) B74(75,0) B75(76,0) B76(77,0) B77(78,0) B78(79,0) B79(80,0) B80(81,0) B82(83,0)
  rect 0.7x3.2 smd: B81(82,0.55)
Top Assembly:
  text "'.Designator'" at 11.953,2.66 h1
Top Courtyard:
  lines w0.254: -1.15,-3.95 84.15,-3.95 84.15,5.45 -1.15,5.45 -1.15,-3.95
Top Designator:
  text ".Designator" at 33.882,0.242 h1.52
Board Shape:
  lines w0.254: -0.65,4.95 -0.65,-2.95 -0.15,-3.45 10.05,-3.45 10.55,-2.95 10.55,4 cw(c11.5,4) 12.45,4 12.45,-2.95 12.95,-3.45 83.15,-3.45 83.65,-2.95 83.65,4.95
Cmts.User:
  text "PCB Thickness 1.57 mm" at 0.697,-3.162 h0.5

## JAE_MM60-EZH039-Bx_BUS_PCI_Express_Holder [mm]
pads (8):
  rrect21% 1.2x2.7 smd: MP(-13.35,-5.45) MP(-10.85,-5.45) MP(10.85,-5.45) MP(13.35,-5.45)
  rrect17% 1.5x1.9 smd: MP(-12.1,0.45) MP(12.1,0.45)
  round 1.55 hole 1.55: Un1(-12.1,-2.3)
  round 1.05 hole 1.05: Un2(12.1,-2.3)
F.SilkS:
  lines w0.254: -14.21,-5.75 -14.6,-5.75 -14.6,1.75 -12.9,1.75 ; -11.09,1.05 11.09,1.05 ; -9.99,-5.75 -9.6,-5.75 -9.6,-1.45 9.6,-1.45 9.6,-5.75 9.99,-5.75 ; 12.9,1.75 14.6,1.75 14.6,-5.75 14.21,-5.75
Top Assembly:
  lines w0.254: -14.5,0.95 14.5,0.95 ; -13,0.95 -13,1.65 -14.5,1.65 -14.5,-5.65 -9.7,-5.65 -9.7,-1.35 ; 13,0.95 13,1.65 14.5,1.65 14.5,-5.65 9.7,-5.65 9.7,-1.35 ; -9.7,-1.35 -9.7,-0.95 9.7,-0.95 9.7,-1.35 ; -9.7,-1.35 9.7,-1.35
  text "'.Designator'" at -4.047,-0.84 h1
Top Courtyard:
  lines w0.254: -15,-6.15 -15,2.15 -12.5,2.15 -12.5,1.9 -10.85,1.9 -10.85,1.45 10.85,1.45 10.85,1.9 12.5,1.9 12.5,2.15 15,2.15 15,-6.15 14.45,-6.15 14.45,-7.3 9.75,-7.3 9.75,-6.15 9.2,-6.15 9.2,-1.85 -9.2,-1.85 -9.2,-6.15 -9.75,-6.15 -9.75,-7.3 -14.45,-7.3 -14.45,-6.15 -15,-6.15
Top Designator:
  text ".Designator" at -7.618,-3.083 h1.52

## JAE_MM60-EZH059-Bx_BUS_PCI_Express_Holder [mm]
pads (8):
  rrect21% 1.2x2.7 smd: MP(-13.35,-5.45) MP(-10.85,-5.45) MP(10.85,-5.45) MP(13.35,-5.45)
  rrect17% 1.5x1.9 smd: MP(-12.1,0.45) MP(12.1,0.45)
  round 1.55 hole 1.55: Un1(-12.1,-2.3)
  round 1.05 hole 1.05: Un2(12.1,-2.3)
F.SilkS:
  lines w0.254: -14.21,-5.75 -14.6,-5.75 -14.6,1.75 -12.9,1.75 ; -11.09,1.05 11.09,1.05 ; -9.99,-5.75 -9.6,-5.75 -9.6,-1.45 9.6,-1.45 9.6,-5.75 9.99,-5.75 ; 12.9,1.75 14.6,1.75 14.6,-5.75 14.21,-5.75
Top Assembly:
  lines w0.254: -14.5,0.95 14.5,0.95 ; -13,0.95 -13,1.65 -14.5,1.65 -14.5,-5.65 -9.7,-5.65 -9.7,-1.35 ; 13,0.95 13,1.65 14.5,1.65 14.5,-5.65 9.7,-5.65 9.7,-1.35 ; -9.7,-1.35 -9.7,-0.95 9.7,-0.95 9.7,-1.35 ; -9.7,-1.35 9.7,-1.35
  text "'.Designator'" at -4.047,-0.84 h1
Top Courtyard:
  lines w0.254: -15,-6.15 -15,2.15 -12.5,2.15 -12.5,1.9 -10.85,1.9 -10.85,1.45 10.85,1.45 10.85,1.9 12.5,1.9 12.5,2.15 15,2.15 15,-6.15 14.45,-6.15 14.45,-7.3 9.75,-7.3 9.75,-6.15 9.2,-6.15 9.2,-1.85 -9.2,-1.85 -9.2,-6.15 -9.75,-6.15 -9.75,-7.3 -14.45,-7.3 -14.45,-6.15 -15,-6.15
Top Designator:
  text ".Designator" at -7.618,-3.083 h1.52

## molex_EDGELOCK_2-CKT [mm]
pads (2):
  rrect20% 1x6.2 smd: 1(-4.65,0) 2(4.65,0)
F.SilkS:
  lines w0.254: -8,3.1 -8,3.5 -7,4.5 7.1,4.5 7.1,3.1
Top Assembly:
  lines w0.254: -7.8,-16.5 -7.8,3.3 -6.8,4.3 6.9,4.3 6.9,-16.5 -7.8,-16.5
  text "'.Designator'" at -2.828,-0.583 h0.7
Top Courtyard:
  lines w0.254: -8.3,-4 -8.3,4.8 7.4,4.8 7.4,-4 -8.3,-4
Top Designator:
  text ".Designator" at -8.068,-6.358 h1.52
Board Shape:
  lines w0.254: -7.95,-4 -7.95,2.7 cw(c-7.55,2.7) -7.55,3.1 -6.15,3.1 cw(c-6.15,2.7) -5.75,2.7 -5.75,-4 -3.55,-4 -3.55,0 cw(c-3.35,0) -3.35,0.2 -2.9,0.2 cw(c-2.9,0) -2.7,0 -2.7,-4 2.7,-4 2.7,0 cw(c2.9,0) 2.9,0.2 3.35,0.2 cw(c3.35,0) 3.55,0 3.55,-4 5.75,-4 5.75,2.7 cw(c6.15,2.7) 6.15,3.1 6.75,3.1 cw(c6.75,2.7) 7.15,2.7 7.15,-4 ; -1.4,1.65 ccw(c-1,1.65) -1,1.25 1,1.25 ccw(c1,1.65) 1.4,1.65 1.4,3.9 ccw(c1,3.9) 1,4.3 -1,4.3 ccw(c-1,3.9) -1.4,3.9 -1.4,1.65
Dwgs.User:
  lines w0.254: -5.75,-3.5 -3.55,-3.5 ; -2.7,-3.5 2.7,-3.5 ; 3.55,-3.5 5.75,-3.5
Cmts.User:
  text "Chamfer 30 degree 0.5 mm" at -7.042,-5.317 h0.7

## molex_EDGELOCK_4-CKT [mm]
pads (4):
  rrect20% 1x6.2 smd: 1(-6.65,0) 2(-4.65,0) 3(4.65,0) 4(6.65,0)
F.SilkS:
  lines w0.254: -10,3.1 -10,3.5 -9,4.5 9.1,4.5 9.1,3.1
Top Assembly:
  lines w0.254: -9.8,-16.5 -9.8,3.3 -8.8,4.3 8.9,4.3 8.9,-16.5 -9.8,-16.5
  text "'.Designator'" at -2.828,-0.583 h0.7
Top Courtyard:
  lines w0.254: -10.3,-4 -10.3,4.8 9.4,4.8 9.4,-4 -10.3,-4
Top Designator:
  text ".Designator" at -8.068,-6.358 h1.52
Board Shape:
  lines w0.254: -9.95,-4 -9.95,2.7 cw(c-9.55,2.7) -9.55,3.1 -8.15,3.1 cw(c-8.15,2.7) -7.75,2.7 -7.75,-4 -3.55,-4 -3.55,0 cw(c-3.35,0) -3.35,0.2 -2.9,0.2 cw(c-2.9,0) -2.7,0 -2.7,-4 2.7,-4 2.7,0 cw(c2.9,0) 2.9,0.2 3.35,0.2 cw(c3.35,0) 3.55,0 3.55,-4 7.75,-4 7.75,2.7 cw(c8.15,2.7) 8.15,3.1 8.75,3.1 cw(c8.75,2.7) 9.15,2.7 9.15,-4 ; -1.4,1.65 ccw(c-1,1.65) -1,1.25 1,1.25 ccw(c1,1.65) 1.4,1.65 1.4,3.9 ccw(c1,3.9) 1,4.3 -1,4.3 ccw(c-1,3.9) -1.4,3.9 -1.4,1.65
Dwgs.User:
  lines w0.254: -7.75,-3.5 -3.55,-3.5 ; -2.7,-3.5 2.7,-3.5 ; 3.55,-3.5 7.75,-3.5
Cmts.User:
  text "Chamfer 30 degree 0.5 mm" at -7.042,-5.317 h0.7